# Altium footprint library STSPIN32F0251.PcbLib: 1 footprints
Each footprint in its own frame and in the unit in brackets; x right, y up, seen from the top. Pads: shape width x height; smd on the part's side, far side on the other; paste and mask are expansions set on the pad; w line width, h text height; cw(c..) or ccw(c..) is an arc to the next point about the centre after c.
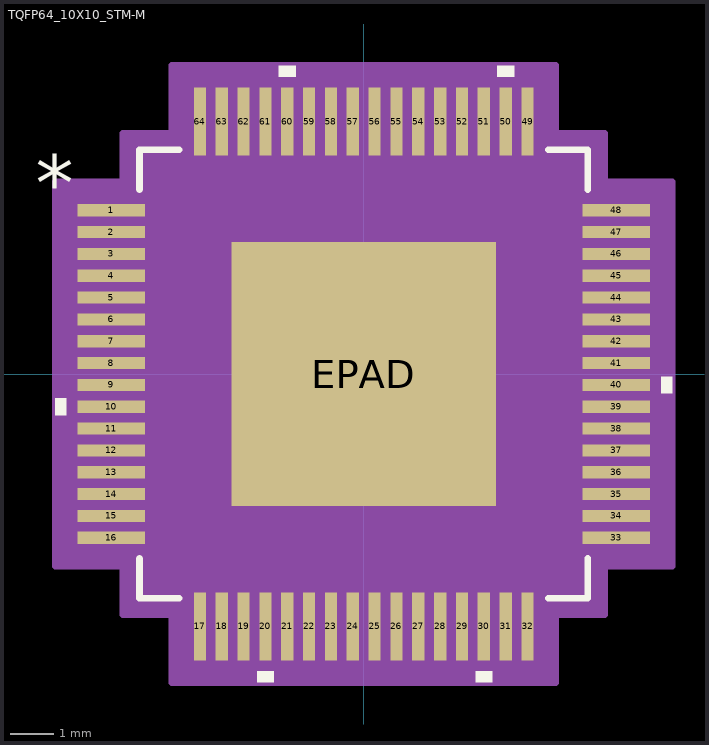
[diagram p0: the footprint, top view; thin cyan lines are the x and y axes]

## TQFP64_10X10_STM-M [mil]
pads (65):
  rect 61x11 smd paste+0 mask+0: 1(-227.5,147.64) 2(-227.5,127.95) 3(-227.5,108.27) 4(-227.5,88.58) 5(-227.5,68.9) 6(-227.5,49.21) 7(-227.5,29.53) 8(-227.5,9.84) 9(-227.5,-9.84) 10(-227.5,-29.53) 11(-227.5,-49.21) 12(-227.5,-68.9) 13(-227.5,-88.58) 14(-227.5,-108.27) 15(-227.5,-127.95) 16(-227.5,-147.64) 33(227.5,-147.64) 34(227.5,-127.95) 35(227.5,-108.27) 36(227.5,-88.58) 37(227.5,-68.9) 38(227.5,-49.21) 39(227.5,-29.53) 40(227.5,-9.84) 41(227.5,9.84) 42(227.5,29.53) 43(227.5,49.21) 44(227.5,68.9) 45(227.5,88.58) 46(227.5,108.27) 47(227.5,127.95) 48(227.5,147.64)
  rect 11x61 smd paste+0 mask+0: 17(-147.64,-227.5) 18(-127.95,-227.5) 19(-108.27,-227.5) 20(-88.58,-227.5) 21(-68.9,-227.5) 22(-49.21,-227.5) 23(-29.53,-227.5) 24(-9.84,-227.5) 25(9.84,-227.5) 26(29.53,-227.5) 27(49.21,-227.5) 28(68.9,-227.5) 29(88.58,-227.5) 30(108.27,-227.5) 31(127.95,-227.5) 32(147.64,-227.5) 49(147.64,227.5) 50(127.95,227.5) 51(108.27,227.5) 52(88.58,227.5) 53(68.9,227.5) 54(49.21,227.5) 55(29.53,227.5) 56(9.84,227.5) 57(-9.84,227.5) 58(-29.53,227.5) 59(-49.21,227.5) 60(-68.9,227.5) 61(-88.58,227.5) 62(-108.27,227.5) 63(-127.95,227.5) 64(-147.64,227.5)
  rect 238x238 smd paste-118.5 mask+0: EPAD(0,0)
Top Overlay:
  region: -61.4,268 -76.4,268 -76.4,278 -61.4,278
  region: 135.45,268 120.45,268 120.45,278 135.45,278
  region: 268,-2.34 278,-2.34 278,-17.34 268,-17.34
  region: 115.77,-268 100.77,-268 100.77,-278 115.77,-278
  region: -81.08,-268 -96.08,-268 -96.08,-278 -81.08,-278
  region: -268,-22.03 -278,-22.03 -278,-37.03 -268,-37.03
  lines w6: -202,-166.24 -202,-202 -166.24,-202 ; -202,166.24 -202,202 -166.24,202 ; 166.24,-202 202,-202 202,-166.24 ; 166.24,202 202,202 202,166.24
  text "*" at -295.5,147.48 h50
Top Paste:
  region: 115.06,-63.44 63.44,-63.44 63.44,-115.06 115.06,-115.06
  region: 115.06,-3.94 63.44,-3.94 63.44,-55.56 115.06,-55.56
  region: 115.06,55.56 63.44,55.56 63.44,3.94 115.06,3.94
  region: 115.06,115.06 63.44,115.06 63.44,63.44 115.06,63.44
  region: 55.56,-63.44 3.94,-63.44 3.94,-115.06 55.56,-115.06
  region: 55.56,-3.94 3.94,-3.94 3.94,-55.56 55.56,-55.56
  region: 55.56,55.56 3.94,55.56 3.94,3.94 55.56,3.94
  region: 55.56,115.06 3.94,115.06 3.94,63.44 55.56,63.44
  region: -3.94,-63.44 -55.56,-63.44 -55.56,-115.06 -3.94,-115.06
  region: -3.94,-3.94 -55.56,-3.94 -55.56,-55.56 -3.94,-55.56
  region: -3.94,55.56 -55.56,55.56 -55.56,3.94 -3.94,3.94
  region: -3.94,115.06 -55.56,115.06 -55.56,63.44 -3.94,63.44
  region: -63.44,-63.44 -115.06,-63.44 -115.06,-115.06 -63.44,-115.06
  region: -63.44,-3.94 -115.06,-3.94 -115.06,-55.56 -63.44,-55.56
  region: -63.44,55.56 -115.06,55.56 -115.06,3.94 -63.44,3.94
  region: -63.44,115.06 -115.06,115.06 -115.06,63.44 -63.44,63.44
Mechanical 13:
  drawing of 261 lines, arcs and shapes, not listed
  text "*" at -194.5,132.48 h50
Mechanical 15:
  region: -173.14,-217 -217,-217 -217,-173.14 -278,-173.14 -278,173.14 -217,173.14 -217,217 -173.14,217 -173.14,278 173.14,278 173.14,217 217,217 217,173.14 278,173.14 278,-173.14 217,-173.14 217,-217 173.14,-217 173.14,-278 -173.14,-278
  lines w6: -278,-173.14 -278,173.14 -217,173.14 -217,217 -173.14,217 -173.14,278 173.14,278 173.14,217 217,217 217,173.14 278,173.14 278,-173.14 217,-173.14 217,-217 173.14,-217 173.14,-278 -173.14,-278 -173.14,-217 -217,-217 -217,-173.14 -278,-173.14
3D body "TQFP64_10X10_STM.step": height 47.09, standoff 0, extent -235.98,-235.98 235.98,235.98